# EAGLE library part MM88C30N (library Fairchild_By_element14_Batch_1)
Single-Ended Line Driver
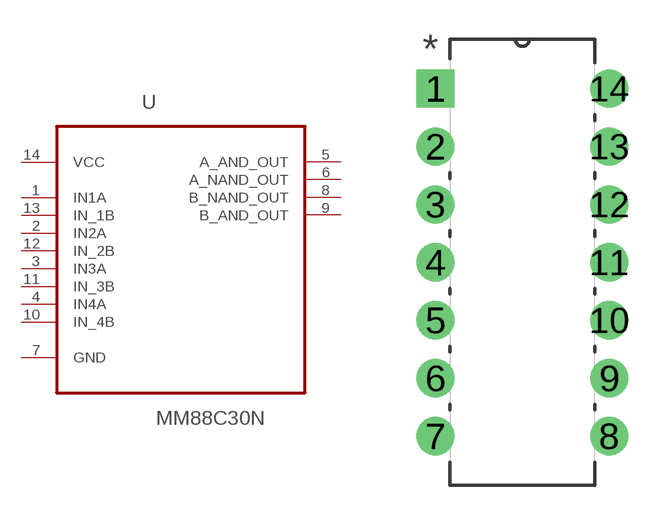
[diagram p337: symbol with the pads of DIP254P762X508-14; footprint DIP254P762X508-14]

Designator prefix U

## MM88C30N (MPN: MM88C30N; OC_FARNELL: 1014052; OC_NEWARK: 58K1955; PACKAGE: DIP-14; SUPPLIER: FAIRCHILD SEMICONDUCTOR)  [DIP254P762X508-14]
1  IN1A  in
2  IN2A  in
3  IN3A  in
4  IN4A  in
5  A_AND_OUT  out
6  A_NAND_OUT  out
7  GND  pas
8  B_NAND_OUT  out
9  B_AND_OUT  out
10  IN_4B  in
11  IN_3B  in
12  IN_2B  in
13  IN_1B  in
14  VCC  pwr

## Footprint DIP254P762X508-14 (pad centres in mm)
drill 1.118 square: 1 -7.62,15.24
drill 1.118: 2 -7.62,12.7; 3 -7.62,10.16; 4 -7.62,7.62; 5 -7.62,5.08; 6 -7.62,2.54; 7 -7.62,0; 8 0,0; 9 0,2.54; 10 0,5.08; 11 0,7.62; 12 0,10.16; 13 0,12.7; 14 0,15.24